# EAGLE library part J00-0065NL (library Connectors_1)
CONN MAGJACK 1PORT 100 BASE-TX Manufacturer's datasheet <https://productfinder.pulseeng.com/doc_type/WEB301/doc_num/J403/doc_part/J403.pdf>
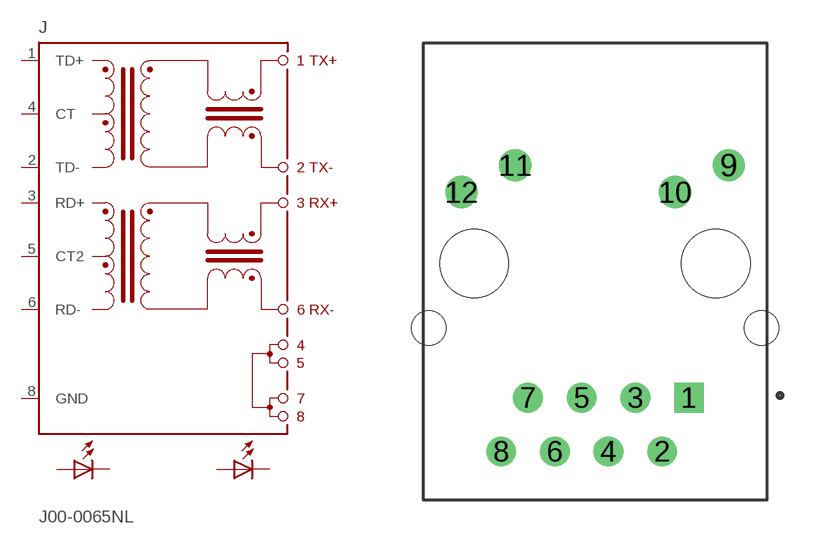
[diagram p0: symbol with the pads of J00-0065NL; footprint J00-0065NL]

Designator prefix J

## J00-0065NL (CREATED_BY: PCBLayout.com; DIGIKEY_PART_NUMBER: 553-1345-ND; MANUFACTURER: Pulse Electronics Network; MPN: J00-0065NL)  [J00-0065NL]
1  TD+  in
2  TD-  in
3  RD+  in
4  CT  in
5  CT2  in
6  RD-  in
8  GND  pas
9  LL1  pas
10  LL2  pas
11  RL2  pas
12  RL1  pas

## Footprint J00-0065NL (pad centres in mm)
drill 0.9 square: 1 4.443,-6.349
drill 0.9: 2 3.173,-8.889; 3 1.903,-6.349; 4 0.633,-8.889; 5 -0.637,-6.349; 6 -1.907,-8.889; 7 -3.177,-6.349; 8 -4.447,-8.889
drill 1.02: 9 6.324,4.647; 10 3.784,3.377; 11 -3.786,4.646; 12 -6.326,3.376
hole 3.25 at -5.717,0
hole 3.25 at 5.712,0
hole 1.63 at -7.875,-3.05
hole 1.63 at 7.875,-3.049